# Altium footprint library TDK VLS201612HBX-1.PCBLIB: 1 footprints
Each footprint in its own frame and in the unit in brackets; x right, y up, seen from the top. Pads: shape width x height; smd on the part's side, far side on the other; paste and mask are expansions set on the pad; w line width, h text height; cw(c..) or ccw(c..) is an arc to the next point about the centre after c.
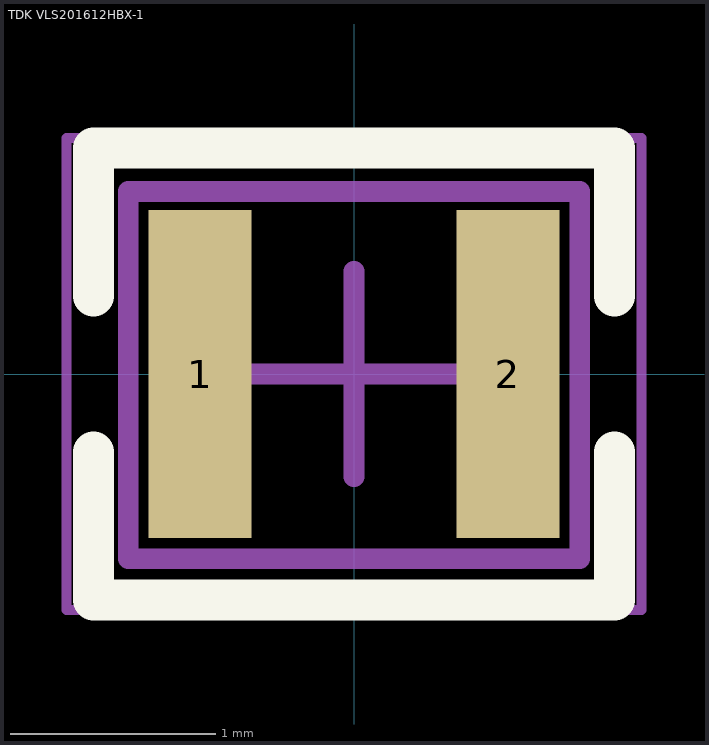
[diagram p0: the footprint, top view; thin cyan lines are the x and y axes]

## TDK VLS201612HBX-1 [mm] "Inductor, 2-Leads, Body 2.00x1.60mm, IPC Medium Density"
height 1.2
pads (2):
  rect 0.5x1.6 smd: 1(-0.75,0) 2(0.75,0)
Top Overlay:
  lines w0.2: -1.27,-0.381 -1.27,-1.1 1.27,-1.1 1.27,-0.381 ; -1.27,0.381 -1.27,1.1 1.27,1.1 1.27,0.381
Mechanical 13:
  lines w0.1: -1.1,-0.9 1.1,-0.9 1.1,0.889 -1.1,0.889 -1.1,-0.9
Mechanical 15:
  lines w0.05: -1.4,-1.15 1.4,-1.15 1.4,1.15 -1.4,1.15 -1.4,-1.15
  lines w0.1: -0.5,0 0.5,0 ; 0,-0.5 0,0.5
3D body "VLS201612.STEP": height 1.2, standoff 0, extent -1,-0.8 1,0.8